# Altium footprint library Resistor.PcbLib: 36 footprints (part 2 of 3)
Each footprint in its own frame and in the unit in brackets; x right, y up, seen from the top. Pads: shape width x height; smd on the part's side, far side on the other; paste and mask are expansions set on the pad; w line width, h text height; cw(c..) or ccw(c..) is an arc to the next point about the centre after c.
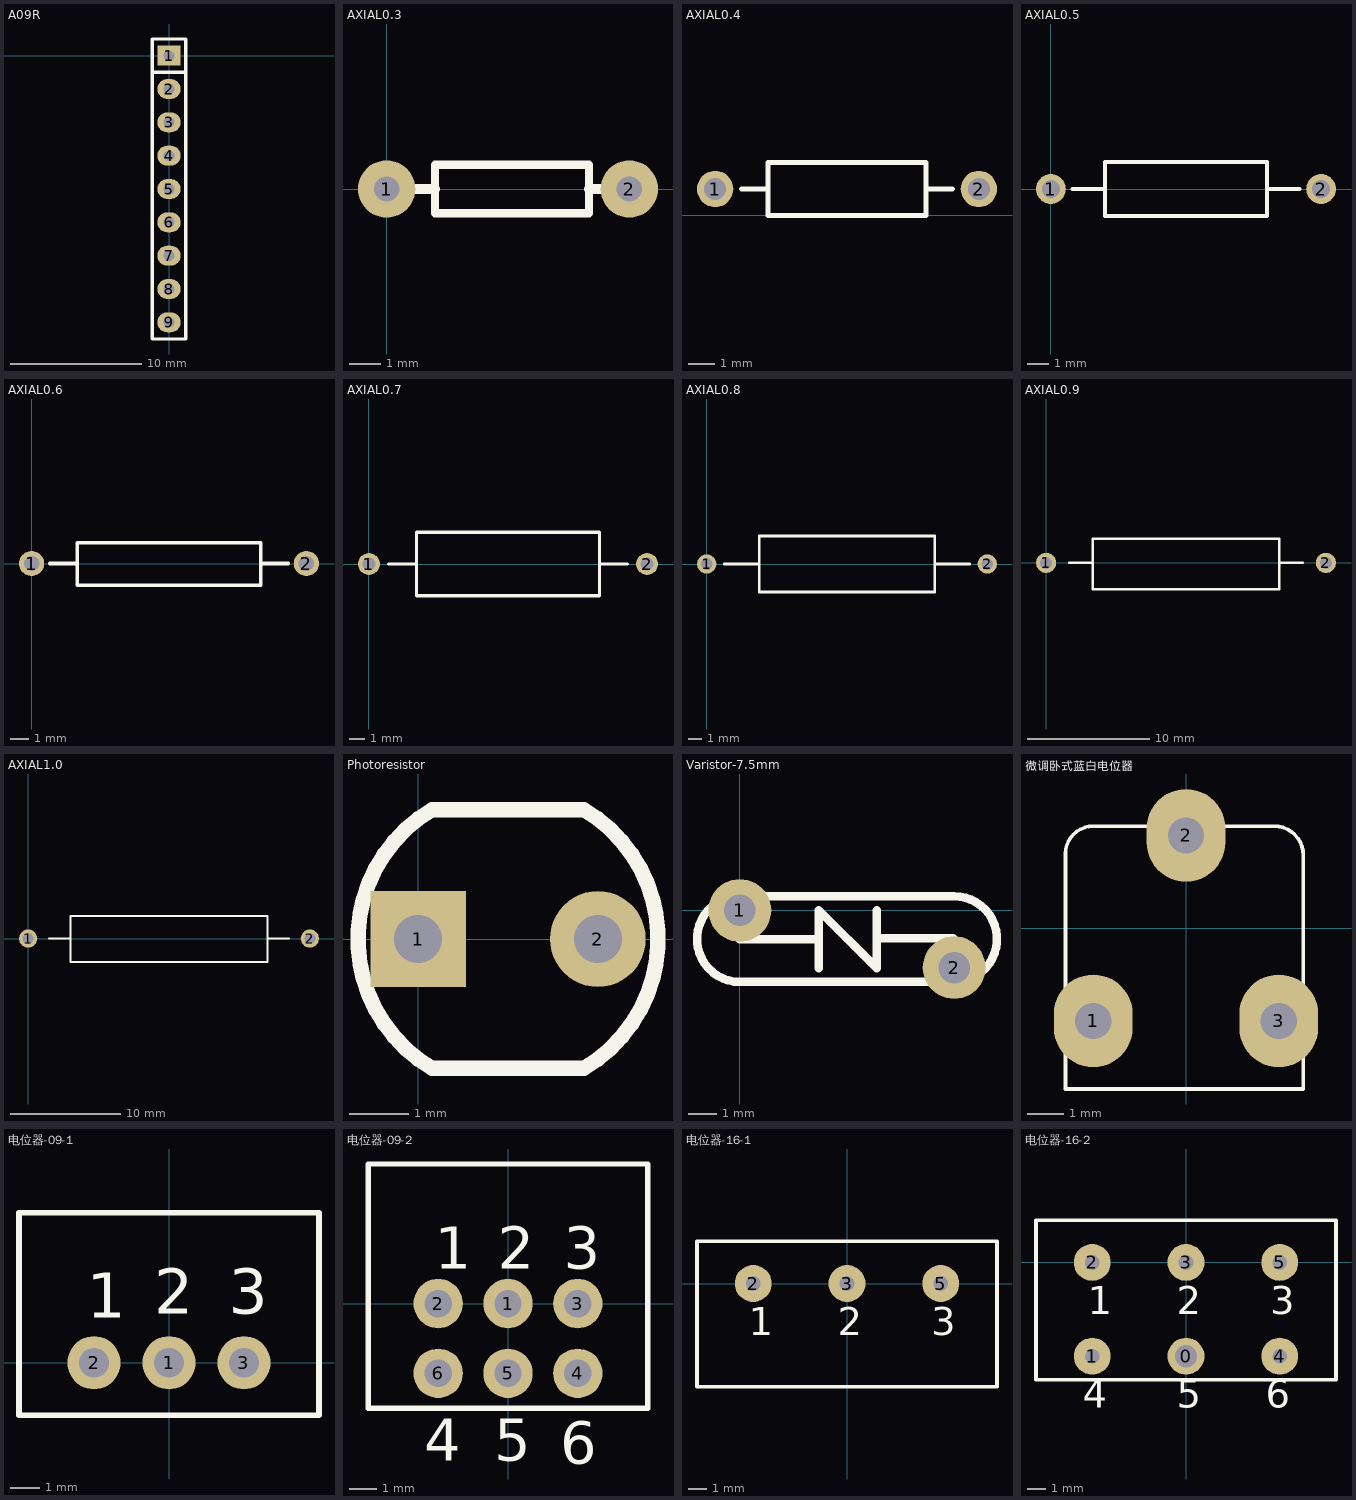
[diagram p1: the footprints below, top view; thin cyan lines are the x and y axes]

## A09R [mil]
pads (9):
  rect 70x60 hole 32: 1(0,0)
  oval 70x60 hole 32: 2(0,-100) 3(0,-200) 4(0,-300) 5(0,-400) 6(0,-500) 7(0,-600) 8(0,-700) 9(0,-800)
Top Overlay:
  lines w10: -50,-50 50,-50 ; -50,-850 -50,50 50,50 50,-850 -50,-850
Top Designator (Mech15):
  text ".Designator" at 299.9,-419.99 h60
3D body "Resistor array 9pin.step": height 169.29, standoff -165.35, extent -24.21,-852.91 25,32.92

## AXIAL0.3 [mm]
pads (2):
  round 1.8 hole 0.8: 1(0,0) 2(7.62,0)
Top Overlay:
  lines w0.254: 1.524,-0.762 1.524,0.762 6.35,0.762 6.35,-0.762 1.524,-0.762
  lines w0.305: 0.762,0 1.524,0 ; 6.35,0 6.858,0
Top Designator (Mech15):
  text ".Designator" at 11.428,-0.508 h1.52
3D body "RESISTOR 7_62MM DIP.step": height 1.25, standoff -2.75, extent -0.24,-1 7.86,1

## AXIAL0.4 [mm] "1/4W/1/2W"
height 2.032
pads (2):
  round 1.4 hole 0.85: 1(3.302,1.016) 2(13.462,1.016)
Top Overlay:
  lines w0.2: 4.318,1.016 5.334,1.016 ; 11.43,1.016 12.446,1.016 ; 5.334,0 11.43,0 11.43,2.032 5.334,2.032 5.334,0
Top Designator (Mech15):
  text ".Designator" at 16,0.508 h1.52
3D body "AXIAL-0.4-0.25W.STEP": height 2.63, standoff -2.64, extent 3.002,-0.244 13.762,2.276

## AXIAL0.5 [mm] "1/2W/1W"
height 2.54
pads (2):
  round 1.4 hole 0.85: 1(0,0) 2(12.7,0)
Top Overlay:
  lines w0.2: 1.016,0 2.54,0 ; 10.16,0 11.684,0 ; 2.54,-1.27 2.54,1.27 10.16,1.27 10.16,-1.27 2.54,-1.27
Top Designator (Mech15):
  text ".Designator" at 13.968,-0.54 h1.52
3D body "User Library-Resistencia 0_5.STEP": height 3.1, standoff -1.5, extent -0.381,-1.461 13.081,1.397

## AXIAL0.6 [mm] "Variable Resistor; 2 Leads"
height 2.54
pads (2):
  round 1.4 hole 0.85: 1(0,0) 2(15.24,0)
Top Overlay:
  lines w0.2: 1.016,0 2.54,0 ; 12.7,0 14.224,0 ; 2.54,-1.194 2.54,1.143 12.7,1.143 12.7,-1.194 2.54,-1.194
Top Designator (Mech15):
  text ".Designator" at 15.238,-0.559 h1.52
3D body "AXIAL06.STEP": height 2.5, standoff -0.8, extent -0.117,-1.351 15.443,1.249

## AXIAL0.7 [mm] "Variable Resistor; 2 Leads"
height 4.064
pads (2):
  round 1.4 hole 0.85: 1(0,0) 2(17.78,0)
Top Overlay:
  lines w0.2: 1.27,0 3.048,0 ; 14.732,0 16.51,0 ; 3.048,-2.032 3.048,2.032 14.732,2.032 14.732,-2.032 3.048,-2.032
Top Designator (Mech15):
  text ".Designator" at 16.508,-0.621 h1.52
3D body "AXIAL07.STEP": height 4.3, standoff -1, extent -0.324,-2.413 18.136,2.187

## AXIAL0.8 [mm] "Adjustable Inductor; 2 Leads"
height 4.064
pads (2):
  round 1.4 hole 0.85: 1(0,0) 2(20.32,0)
Top Overlay:
  lines w0.2: 1.27,0 3.81,0 ; 16.51,0 19.05,0 ; 3.81,-2.032 3.81,2.032 16.51,2.032 16.51,-2.032 3.81,-2.032
Top Designator (Mech15):
  text ".Designator" at 17.778,-0.545 h1.52
3D body "AXIAL08.STEP": height 4.3, standoff -1, extent -0.348,-2.337 20.752,2.263

## AXIAL0.9 [mm] "Magnetic-Core Inductor; 2 Leads"
height 5.08
pads (2):
  round 1.65 hole 1: 1(0,0) 2(22.86,0)
Top Overlay:
  lines w0.2: 1.905,0 3.81,0 ; 19.05,0 20.955,0 ; 3.81,-2.159 3.81,1.981 19.05,1.981 19.05,-2.159 3.81,-2.159
Top Designator (Mech15):
  text ".Designator" at 19.048,-0.57 h1.52
3D body "AXIAL09.STEP": height 4.3, standoff -1, extent -0.459,-2.362 23.241,2.238

## AXIAL1.0 [mm] "Adjustable Magnetic-Core Inductor; 2 Leads"
height 7.62
pads (2):
  round 1.65 hole 1: 1(0,0) 2(25.4,0)
Top Overlay:
  lines w0.2: 1.905,0 3.81,0 ; 21.59,0 23.495,0 ; 3.81,-2.108 3.81,2.032 21.59,2.032 21.59,-2.108 3.81,-2.108
Top Designator (Mech15):
  text ".Designator" at 20.318,-0.57 h1.52
3D body "AXIAL10.STEP": height 4.3, standoff -1, extent -0.368,-2.362 25.832,2.238

## Photoresistor [mm]
pads (2):
  rect 1.6x1.6 hole 0.8: 1(0,0)
  round 1.6 hole 0.8: 2(3,0)
Top Overlay:
  lines w0.254: 0.23,-2.159 cw(c1.5,0) 0.23,2.159 2.77,2.159 cw(c1.5,0) 2.77,-2.159 0.23,-2.159
Top Designator (Mech15):
  text ".Designator" at 9.118,-0.508 h1.52
3D body "RG5528-.STEP": height 1.9, standoff -3.45, extent -1,-2.159 4,2.141

## Varistor-7.5mm [mm]
pads (2):
  round 2.2 hole 1.1: 1(0,0) 2(7.5,-2)
Top Overlay:
  lines w0.3: 0,-1.003 2.625,-1.003 ; 2.757,-2.019 2.757,0.013 4.789,-2.019 4.789,0.013 ; 4.825,-0.978 7.475,-0.978 ; 0,-2.503 cw(c0,-1.003) 0,0.497 7.5,0.497 cw(c7.5,-1.003) 7.5,-2.503 0,-2.503
Top Designator (Mech15):
  text ".Designator" at 11.368,-1.508 h1.52
3D body "10D471K.STEP": height 11.2, standoff -4, extent -1.6,-2.8 9.1,0.8

## 微调卧式蓝白电位器 [mil]
pads (3):
  oval 85x100 hole 39: 1(-100,-100) 2(0,100) 3(100,-100)
Top Overlay:
  lines w3.94: -130,-173.46 -130,80 cw(c-100,80) -100,110 95,110 cw(c95,78.46) 126.54,78.46 126.54,-173.46 -130,-173.46
Top Designator (Mech15):
  text ".Designator" at 299.9,-38.98 h60
3D body "User Library-Trimmer, 3306F-1.STEP": height 300, standoff -119.49, extent -134.05,-191.98 134.06,132.89

## 电位器-09-1 [mm]
pads (3):
  round 1.8 hole 1: 1(0,0) 2(-2.54,0) 3(2.54,0)
Top Overlay:
  lines w0.2: -5.08,-1.778 -5.08,5.08 5.08,5.08 5.08,-1.778 -5.08,-1.778
  text "1" at -2.794,1.524 h1.52
  text "2" at -0.508,1.651 h1.52
  text "3" at 2.032,1.651 h1.52
Top Designator (Mech15):
  text ".Designator" at 7.618,8.593 h1.52
3D body: height 11, standoff 0, extent -5.08,-1.778 5.08,3.81
3D body: height 11, standoff 0, extent -5.08,3.81 5.08,5.08
3D body: height 9.84, standoff 2.86, extent -3.485,5.08 3.487,10.08
3D body: height 9.34, standoff 3.36, extent -2.988,13.08 2.988,20.08
3D body: height 8.88, standoff 3.82, extent -2.53,10.08 2.53,13.08
3D body: height 3, standoff 0, extent 2.286,-0.254 2.794,0.254
3D body: height 3, standoff 0, extent -0.254,-0.254 0.254,0.254
3D body: height 3, standoff 0, extent -2.794,-0.254 -2.286,0.254

## 电位器-09-2 [mm]
pads (6):
  round 1.8 hole 1: 1(0,0) 2(-2.54,0) 3(2.54,0) 4(2.54,-2.54) 5(0,-2.54) 6(-2.54,-2.54)
Top Overlay:
  lines w0.2: -5.08,-3.81 -5.08,5.08 5.08,5.08 5.08,-3.81 -5.08,-3.81
  text "6" at 1.905,-5.842 h1.52
  text "5" at -0.508,-5.715 h1.52
  text "4" at -3.048,-5.715 h1.52
  text "3" at 2.032,1.27 h1.52
  text "2" at -0.381,1.27 h1.52
  text "1" at -2.667,1.27 h1.52
Top Designator (Mech15):
  text ".Designator" at 7.618,6.484 h1.52
3D body: height 3, standoff 0, extent -2.794,-2.794 -2.286,-2.286
3D body: height 3, standoff 0, extent -0.254,-2.794 0.254,-2.286
3D body: height 3, standoff 0, extent 2.286,-2.794 2.794,-2.286
3D body: height 3, standoff 0, extent -2.794,-0.254 -2.286,0.254
3D body: height 3, standoff 0, extent -0.254,-0.254 0.254,0.254
3D body: height 3, standoff 0, extent 2.286,-0.254 2.794,0.254
3D body: height 8.88, standoff 3.82, extent -2.53,10.08 2.53,13.08
3D body: height 9.34, standoff 3.36, extent -2.988,13.08 2.988,20.08
3D body: height 9.84, standoff 2.86, extent -3.485,5.08 3.487,10.08
3D body: height 11, standoff 0, extent -5.08,3.81 5.08,5.08
3D body: height 11, standoff 0, extent -5.08,-3.81 5.08,3.81

## 电位器-16-1 [mm]
pads (3):
  round 2 hole 0.8: 2(-5.08,0) 3(0,0) 5(5.08,0)
Top Overlay:
  lines w0.2: -8.128,-5.588 -8.128,2.286 8.128,2.286 8.128,-5.588 -8.128,-5.588
  text "3" at 4.572,-2.794 h1.52
  text "2" at -0.508,-2.794 h1.52
  text "1" at -5.334,-2.794 h1.52
Top Designator (Mech15):
  text ".Designator" at 7.618,7.998 h1.52
3D body: height 17.69, standoff 7.71, extent -4.98,-5.588 4.98,-4.488
3D body: height 15.69, standoff 9.71, extent -2.978,12.7 2.998,22.7
3D body: height 15.23, standoff 10.17, extent -2.52,9.7 2.54,12.7
3D body: height 16.19, standoff 9.21, extent -3.51,3.302 3.463,9.802
3D body: height 18.69, standoff 6.71, extent -5.976,2.302 5.976,3.302
3D body: height 13, standoff 1, extent -7.968,0.246 7.968,1.278
3D body: height 20.68, standoff 4.72, extent -7.937,0.27 8,1.27
3D body: height 20.68, standoff 4.72, extent -7.968,1.286 7.968,2.286
3D body: height 4, standoff 0, extent -1.27,-0.381 1.27,0.381
3D body: height 4, standoff 0, extent 3.81,-0.381 6.35,0.381
3D body: height 4, standoff 0, extent -6.35,-0.381 -3.81,0.381
3D body: height 1, standoff -4, extent -5.477,-0.399 -4.68,0.399
3D body: height 1, standoff -4, extent -0.397,-0.399 0.4,0.399
3D body: height 1, standoff -4, extent 4.683,-0.399 5.48,0.399
3D body: height 2.6, standoff 1.4, extent -5.678,-0.508 -4.482,1.492
3D body: height 2.6, standoff 1.4, extent -0.598,-0.508 0.598,1.492
3D body: height 2.6, standoff 1.4, extent 4.482,-0.508 5.678,1.492
3D body: height 20.68, standoff 4.72, extent -7.939,-5.492 7.998,0.508

## 电位器-16-2 [mm]
pads (6):
  round 2 hole 1.2: 0(0,-5.08)
  round 2 hole 0.8: 1(-5.08,-5.08) 2(-5.08,0) 3(0,0) 4(5.08,-5.08) 5(5.08,0)
Top Overlay:
  lines w0.2: -8.128,-6.35 -8.128,2.286 8.128,2.286 8.128,-6.35 -8.128,-6.35
  text "3" at 4.572,-2.794 h1.52
  text "2" at -0.508,-2.794 h1.52
  text "1" at -5.334,-2.794 h1.52
  text "6" at 4.318,-7.874 h1.52
  text "5" at -0.508,-7.874 h1.52
  text "4" at -5.588,-7.874 h1.52
Top Designator (Mech15):
  text ".Designator" at 7.618,6.778 h1.52
3D body: height 1, standoff -4, extent 4.683,-5.479 5.48,-4.681
3D body: height 1, standoff -4, extent -0.397,-5.479 0.4,-4.681
3D body: height 1, standoff -4, extent -5.477,-5.479 -4.68,-4.681
3D body: height 17.69, standoff 7.71, extent -4.98,-6.572 4.98,-5.472
3D body: height 15.69, standoff 9.71, extent -2.988,12.7 2.988,22.7
3D body: height 15.23, standoff 10.17, extent -2.52,9.7 2.54,12.7
3D body: height 16.19, standoff 9.21, extent -3.51,3.302 3.463,9.802
3D body: height 18.69, standoff 6.71, extent -5.976,2.302 5.976,3.302
3D body: height 20.68, standoff 4.72, extent -7.968,-6.358 7.968,-5.358
3D body: height 13, standoff 1, extent -7.968,-6.358 7.968,-5.326
3D body: height 13, standoff 1, extent -7.968,0.246 7.968,1.278
3D body: height 20.68, standoff 4.72, extent -7.937,0.27 8,1.27
3D body: height 20.68, standoff 4.72, extent -7.968,1.286 7.968,2.286
3D body: height 4, standoff 0, extent -1.27,-0.381 1.27,0.381
3D body: height 4, standoff 0, extent 3.81,-0.381 6.35,0.381
3D body: height 4, standoff 0, extent -6.35,-0.381 -3.81,0.381
3D body: height 4, standoff 0, extent -6.35,-5.461 -3.81,-4.699
3D body: height 4, standoff 0, extent -1.27,-5.461 1.27,-4.699
3D body: height 4, standoff 0, extent 3.81,-5.461 6.35,-4.699
3D body: height 1, standoff -4, extent -5.477,-0.399 -4.68,0.399
3D body: height 1, standoff -4, extent -0.397,-0.399 0.4,0.399
3D body: height 1, standoff -4, extent 4.683,-0.399 5.48,0.399
3D body: height 2.6, standoff 1.4, extent -5.678,-0.508 -4.482,1.492
3D body: height 2.6, standoff 1.4, extent -0.598,-0.508 0.598,1.492
3D body: height 2.6, standoff 1.4, extent 4.482,-0.508 5.678,1.492
3D body: height 2.6, standoff 1.4, extent 4.482,-6.572 5.678,-4.572
3D body: height 2.6, standoff 1.4, extent -0.598,-6.572 0.598,-4.572
3D body: height 2.6, standoff 1.4, extent -5.678,-6.572 -4.482,-4.572
3D body: height 20.68, standoff 4.72, extent -7.939,-5.492 7.998,0.508